# Altium schematic symbol library 691 325 310 0xx.SchLib: 6 symbols
Pins are listed as number, name and electrical type; pins without a type are passive.

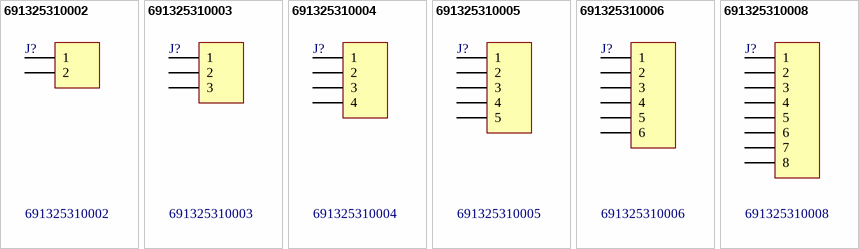
[diagram p0: symbols 691325310002 to 691325310008]

## 691325310002
designator J?
WR-TBL Terminal block - serie 3253- 3.81 mm; Manufacturer: Würth Elektronik eiSos GmbH; ComponentLink1 Description: Manufacturer; ComponentLink2 Description: Datasheet; NoPins: 02; Created Date: 25 December 2013; partNo: 691325310002; ComponentLink1URL: http://www.we-online.com; ComponentLink2URL: http://katalog.we-online.de/em/datasheet/6913253100xx.pdf; Created by: Karrer Zheng
footprint 691325310002 (3,81mm - PCB  Horizontal With Flanges - 02p)
pins: 1, 2

## 691325310003
designator J?
WR-TBL Terminal block - serie 3253- 3.81 mm; Manufacturer: Würth Elektronik eiSos GmbH; ComponentLink1 Description: Manufacturer; ComponentLink2 Description: Datasheet; NoPins: 03; Created Date: 25 December 2013; partNo: 691325310003; ComponentLink1URL: http://www.we-online.com; ComponentLink2URL: http://katalog.we-online.de/em/datasheet/6913253100xx.pdf; Created by: Karrer Zheng
footprint 691325310003 (3,81mm - PCB  Horizontal With Flanges - 03p)
pins: 1, 2, 3

## 691325310004
designator J?
WR-TBL Terminal block - serie 3253- 3.81 mm; Manufacturer: Würth Elektronik eiSos GmbH; ComponentLink1 Description: Manufacturer; ComponentLink2 Description: Datasheet; NoPins: 04; Created Date: 25 December 2013; partNo: 691325310004; ComponentLink1URL: http://www.we-online.com; ComponentLink2URL: http://katalog.we-online.de/em/datasheet/6913253100xx.pdf; Created by: Karrer Zheng
footprint 691325310004 (3,81mm - PCB  Horizontal With Flanges - 04p)
pins: 1, 2, 3, 4

## 691325310005
designator J?
WR-TBL Terminal block - serie 3253- 3.81 mm; Manufacturer: Würth Elektronik eiSos GmbH; ComponentLink1 Description: Manufacturer; ComponentLink2 Description: Datasheet; NoPins: 05; Created Date: 25 December 2013; partNo: 691325310005; ComponentLink1URL: http://www.we-online.com; ComponentLink2URL: http://katalog.we-online.de/em/datasheet/6913253100xx.pdf; Created by: Karrer Zheng
footprint 691325310005 (3,81mm - PCB  Horizontal With Flanges - 05p)
pins: 1, 2, 3, 4, 5

## 691325310006
designator J?
WR-TBL Terminal block - serie 3253- 3.81 mm; Manufacturer: Würth Elektronik eiSos GmbH; ComponentLink1 Description: Manufacturer; ComponentLink2 Description: Datasheet; NoPins: 06; Created Date: 25 December 2013; partNo: 691325310006; ComponentLink1URL: http://www.we-online.com; ComponentLink2URL: http://katalog.we-online.de/em/datasheet/6913253100xx.pdf; Created by: Karrer Zheng
footprint 691325310006 (3,81mm - PCB  Horizontal With Flanges - 06p)
pins: 1, 2, 3, 4, 5, 6

## 691325310008
designator J?
WR-TBL Terminal block - serie 3253- 3.81 mm; Manufacturer: Würth Elektronik eiSos GmbH; ComponentLink1 Description: Manufacturer; ComponentLink2 Description: Datasheet; NoPins: 08; Created Date: 25 December 2013; partNo: 691325310008; ComponentLink1URL: http://www.we-online.com; ComponentLink2URL: http://katalog.we-online.de/em/datasheet/6913253100xx.pdf; Created by: Karrer Zheng
footprint 691325310008 (3,81mm - PCB  Horizontal With Flanges - 08p)
pins: 1, 2, 3, 4, 5, 6, 7, 8